# EAGLE library part ТПГ-0.7-2х6 (library Trasformators)
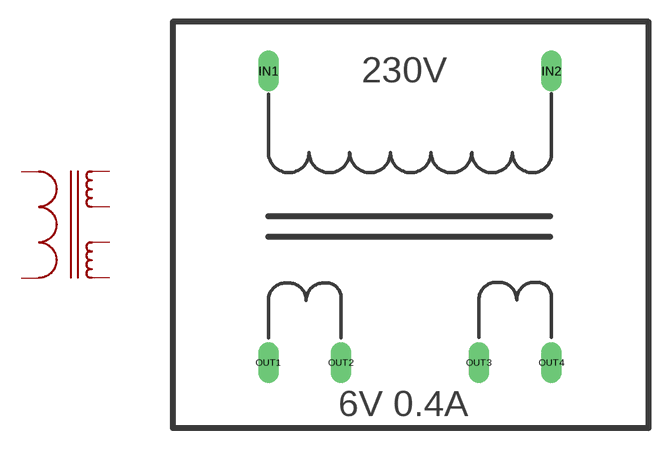
[diagram p0: symbol with the pads of TPG0.7; footprint TPG0.7]

Designator prefix -

## ТПГ-0.7-2х6  [TPG0.7]
IN1  IN1
IN2  IN2
OUT1  OUT1
OUT2  OUT2
OUT3  OUT3
OUT4  OUT4

## Footprint TPG0.7 (pad centres in mm)
drill 0.9 long: IN1 6.6,24.6; IN2 26.1,24.6; OUT1 6.6,4.5; OUT2 11.6,4.5; OUT3 21.1,4.5; OUT4 26.1,4.5